# Altium integrated library National Semiconductor Switcher.IntLib: 2226 symbols (part 27 of 59)
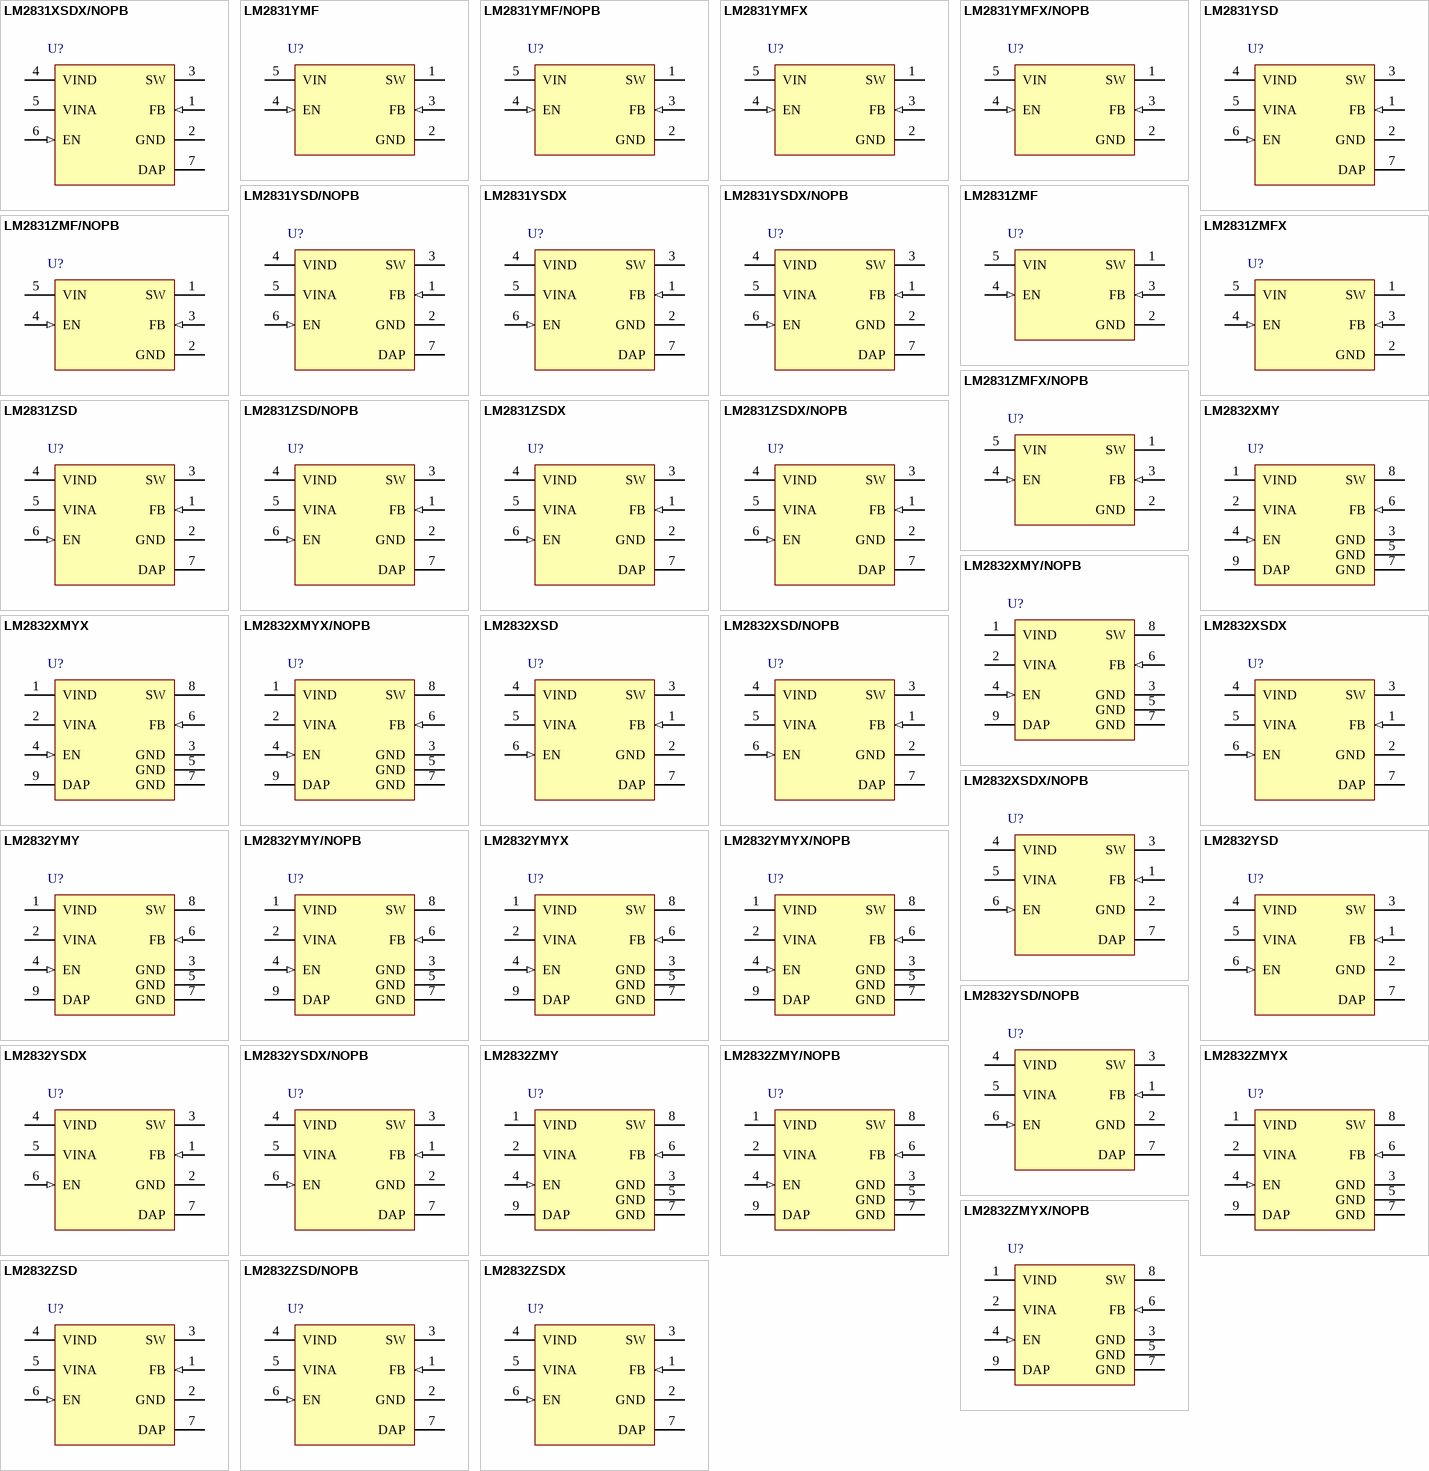
[diagram p95: symbols LM2831XSDX/NOPB to LM2832ZSDX]

## LM2831ZSD/NOPB
designator U?
High Frequency 1.5A Load - Step-Down DC-DC Regulator, 6-pin LLP, Pb-Free; PartNumber: LM2831ZSD/NOPB; Manufacturer: National Semiconductor; PackageTopMarking: ZXYTT*L195B; PowerWise: N; CompType: Switcher; High-Reliability: Y; DatasheetVersion: Aug-2006; PackageVersion: revA, Jul-2003; PackageReference: SDE06A; PackageDescription: LLP, Plastic, Dual, 3 x 3 x 0.8mm Body, 6 Lead, 0.95mm Pitch, No Pullback; RoHS: Y; PinCount: 6; ComponentLink1Description: Manufacturer URL; ComponentLink1URL: http://www.national.com/; ComponentLink2Description: LM2831 Datasheet; ComponentLink2URL: http://www.national.com/ds/LM/LM2831.pdf; ComponentLink3Description: LM2831 Web Page; ComponentLink3URL: http://www.national.com/pf/LM/LM2831.html; ComponentLink4Description: SDE06A Package Page; ComponentLink4URL: http://www.national.com/packaging/folders/sde06a.html
footprint SDE06A_full (SON, 6-Leads, Body 3x3 mm, Pitch 0.95mm, Full Paste, NSC Recommended)
footprint SDE06A_quad (SON, 6-Leads, Body 3x3 mm, Pitch 0.95mm, Quad Paste, NSC Recommended)
pins: 1 FB (in), 2 GND (power), 3 SW (power), 4 VIND (power), 5 VINA (power), 6 EN (in), 7 DAP

## LM2831ZSDX
designator U?
High Frequency 1.5A Load - Step-Down DC-DC Regulator, 6-pin LLP; PartNumber: LM2831ZSDX; Manufacturer: National Semiconductor; PackageTopMarking: ZXYTT*L195B; PowerWise: N; CompType: Switcher; High-Reliability: Y; DatasheetVersion: Aug-2006; PackageVersion: revA, Jul-2003; PackageReference: SDE06A; PackageDescription: LLP, Plastic, Dual, 3 x 3 x 0.8mm Body, 6 Lead, 0.95mm Pitch, No Pullback; RoHS: N; PinCount: 6; ComponentLink1Description: Manufacturer URL; ComponentLink1URL: http://www.national.com/; ComponentLink2Description: LM2831 Datasheet; ComponentLink2URL: http://www.national.com/ds/LM/LM2831.pdf; ComponentLink3Description: LM2831 Web Page; ComponentLink3URL: http://www.national.com/pf/LM/LM2831.html; ComponentLink4Description: SDE06A Package Page; ComponentLink4URL: http://www.national.com/packaging/folders/sde06a.html
footprint SDE06A_full (SON, 6-Leads, Body 3x3 mm, Pitch 0.95mm, Full Paste, NSC Recommended)
footprint SDE06A_quad (SON, 6-Leads, Body 3x3 mm, Pitch 0.95mm, Quad Paste, NSC Recommended)
pins: 1 FB (in), 2 GND (power), 3 SW (power), 4 VIND (power), 5 VINA (power), 6 EN (in), 7 DAP

## LM2831ZSDX/NOPB
designator U?
High Frequency 1.5A Load - Step-Down DC-DC Regulator, 6-pin LLP, Pb-Free; PartNumber: LM2831ZSDX/NOPB; Manufacturer: National Semiconductor; PackageTopMarking: ZXYTT*L195B; PowerWise: N; CompType: Switcher; High-Reliability: Y; DatasheetVersion: Aug-2006; PackageVersion: revA, Jul-2003; PackageReference: SDE06A; PackageDescription: LLP, Plastic, Dual, 3 x 3 x 0.8mm Body, 6 Lead, 0.95mm Pitch, No Pullback; RoHS: Y; PinCount: 6; ComponentLink1Description: Manufacturer URL; ComponentLink1URL: http://www.national.com/; ComponentLink2Description: LM2831 Datasheet; ComponentLink2URL: http://www.national.com/ds/LM/LM2831.pdf; ComponentLink3Description: LM2831 Web Page; ComponentLink3URL: http://www.national.com/pf/LM/LM2831.html; ComponentLink4Description: SDE06A Package Page; ComponentLink4URL: http://www.national.com/packaging/folders/sde06a.html
footprint SDE06A_full (SON, 6-Leads, Body 3x3 mm, Pitch 0.95mm, Full Paste, NSC Recommended)
footprint SDE06A_quad (SON, 6-Leads, Body 3x3 mm, Pitch 0.95mm, Quad Paste, NSC Recommended)
pins: 1 FB (in), 2 GND (power), 3 SW (power), 4 VIND (power), 5 VINA (power), 6 EN (in), 7 DAP

## LM2832XMY
designator U?
High Frequency 2.0A Load - Step-Down DC-DC Regulator, 8-pin eMSOP; PartNumber: LM2832XMY; Manufacturer: National Semiconductor; PackageTopMarking: ZXTT*SLBB; PowerWise: N; CompType: Switcher; High-Reliability: Y; DatasheetVersion: Aug-2006; PackageVersion: revA, Nov-2003; PackageReference: MUY08A; PackageDescription: Molded Mini-SO, Exposed Pad, .118 x .118 x .034in Body, 8 Lead, .0256in Pitch; RoHS: N; PinCount: 8; Code_JEDEC: MO-187-AA; ComponentLink1Description: Manufacturer URL; ComponentLink1URL: http://www.national.com/; ComponentLink2Description: LM2832 Datasheet; ComponentLink2URL: http://www.national.com/ds/LM/LM2832.pdf; ComponentLink3Description: LM2832 Web Page; ComponentLink3URL: http://www.national.com/pf/LM/LM2832.html; ComponentLink4Description: MUY08A Package Page; ComponentLink4URL: http://www.national.com/packaging/folders/muy08a.html
footprint MUY08A_N (TSOP, 8-Leads, Body 3x3mm, Pitch 0.65mm, Thermal Pad, IPC Medium Density)
footprint MUY08A_L (TSOP, 8-Leads, Body 3x3mm, Pitch 0.65mm, Thermal Pad, IPC High Density)
footprint MUY08A_M (TSOP, 8-Leads, Body 3x3mm, Pitch 0.65mm, Thermal Pad, IPC Low Density)
pins: 1 VIND (power), 2 VINA (power), 3 GND (power), 4 EN (in), 5 GND (power), 6 FB (in), 7 GND (power), 8 SW (power), 9 DAP

## LM2832XMY/NOPB
designator U?
High Frequency 2.0A Load - Step-Down DC-DC Regulator, 8-pin eMSOP, Pb-Free; PartNumber: LM2832XMY/NOPB; Manufacturer: National Semiconductor; PackageTopMarking: ZXTT*SLBB; PowerWise: N; CompType: Switcher; High-Reliability: Y; DatasheetVersion: Aug-2006; PackageVersion: revA, Nov-2003; PackageReference: MUY08A; PackageDescription: Molded Mini-SO, Exposed Pad, .118 x .118 x .034in Body, 8 Lead, .0256in Pitch; RoHS: Y; PinCount: 8; Code_JEDEC: MO-187-AA; ComponentLink1Description: Manufacturer URL; ComponentLink1URL: http://www.national.com/; ComponentLink2Description: LM2832 Datasheet; ComponentLink2URL: http://www.national.com/ds/LM/LM2832.pdf; ComponentLink3Description: LM2832 Web Page; ComponentLink3URL: http://www.national.com/pf/LM/LM2832.html; ComponentLink4Description: MUY08A Package Page; ComponentLink4URL: http://www.national.com/packaging/folders/muy08a.html
footprint MUY08A_N (TSOP, 8-Leads, Body 3x3mm, Pitch 0.65mm, Thermal Pad, IPC Medium Density)
footprint MUY08A_L (TSOP, 8-Leads, Body 3x3mm, Pitch 0.65mm, Thermal Pad, IPC High Density)
footprint MUY08A_M (TSOP, 8-Leads, Body 3x3mm, Pitch 0.65mm, Thermal Pad, IPC Low Density)
pins: 1 VIND (power), 2 VINA (power), 3 GND (power), 4 EN (in), 5 GND (power), 6 FB (in), 7 GND (power), 8 SW (power), 9 DAP

## LM2832XMYX
designator U?
High Frequency 2.0A Load - Step-Down DC-DC Regulator, 8-pin eMSOP; PartNumber: LM2832XMYX; Manufacturer: National Semiconductor; PackageTopMarking: ZXTT*SLBB; PowerWise: N; CompType: Switcher; High-Reliability: Y; DatasheetVersion: Aug-2006; PackageVersion: revA, Nov-2003; PackageReference: MUY08A; PackageDescription: Molded Mini-SO, Exposed Pad, .118 x .118 x .034in Body, 8 Lead, .0256in Pitch; RoHS: N; PinCount: 8; Code_JEDEC: MO-187-AA; ComponentLink1Description: Manufacturer URL; ComponentLink1URL: http://www.national.com/; ComponentLink2Description: LM2832 Datasheet; ComponentLink2URL: http://www.national.com/ds/LM/LM2832.pdf; ComponentLink3Description: LM2832 Web Page; ComponentLink3URL: http://www.national.com/pf/LM/LM2832.html; ComponentLink4Description: MUY08A Package Page; ComponentLink4URL: http://www.national.com/packaging/folders/muy08a.html
footprint MUY08A_N (TSOP, 8-Leads, Body 3x3mm, Pitch 0.65mm, Thermal Pad, IPC Medium Density)
footprint MUY08A_L (TSOP, 8-Leads, Body 3x3mm, Pitch 0.65mm, Thermal Pad, IPC High Density)
footprint MUY08A_M (TSOP, 8-Leads, Body 3x3mm, Pitch 0.65mm, Thermal Pad, IPC Low Density)
pins: 1 VIND (power), 2 VINA (power), 3 GND (power), 4 EN (in), 5 GND (power), 6 FB (in), 7 GND (power), 8 SW (power), 9 DAP

## LM2832XMYX/NOPB
designator U?
High Frequency 2.0A Load - Step-Down DC-DC Regulator, 8-pin eMSOP, Pb-Free; PartNumber: LM2832XMYX/NOPB; Manufacturer: National Semiconductor; PackageTopMarking: ZXTT*SLBB; PowerWise: N; CompType: Switcher; High-Reliability: Y; DatasheetVersion: Aug-2006; PackageVersion: revA, Nov-2003; PackageReference: MUY08A; PackageDescription: Molded Mini-SO, Exposed Pad, .118 x .118 x .034in Body, 8 Lead, .0256in Pitch; RoHS: Y; PinCount: 8; Code_JEDEC: MO-187-AA; ComponentLink1Description: Manufacturer URL; ComponentLink1URL: http://www.national.com/; ComponentLink2Description: LM2832 Datasheet; ComponentLink2URL: http://www.national.com/ds/LM/LM2832.pdf; ComponentLink3Description: LM2832 Web Page; ComponentLink3URL: http://www.national.com/pf/LM/LM2832.html; ComponentLink4Description: MUY08A Package Page; ComponentLink4URL: http://www.national.com/packaging/folders/muy08a.html
footprint MUY08A_N (TSOP, 8-Leads, Body 3x3mm, Pitch 0.65mm, Thermal Pad, IPC Medium Density)
footprint MUY08A_L (TSOP, 8-Leads, Body 3x3mm, Pitch 0.65mm, Thermal Pad, IPC High Density)
footprint MUY08A_M (TSOP, 8-Leads, Body 3x3mm, Pitch 0.65mm, Thermal Pad, IPC Low Density)
pins: 1 VIND (power), 2 VINA (power), 3 GND (power), 4 EN (in), 5 GND (power), 6 FB (in), 7 GND (power), 8 SW (power), 9 DAP

## LM2832XSD
designator U?
High Frequency 2.0A Load - Step-Down DC-DC Regulator, 6-pin LLP; PartNumber: LM2832XSD; Manufacturer: National Semiconductor; PackageTopMarking: ZXYTT*L196B; PowerWise: N; CompType: Switcher; High-Reliability: Y; DatasheetVersion: Aug-2006; PackageVersion: revA, Jul-2003; PackageReference: SDE06A; PackageDescription: LLP, Plastic, Dual, 3 x 3 x 0.8mm Body, 6 Lead, 0.95mm Pitch, No Pullback; RoHS: N; PinCount: 6; ComponentLink1Description: Manufacturer URL; ComponentLink1URL: http://www.national.com/; ComponentLink2Description: LM2832 Datasheet; ComponentLink2URL: http://www.national.com/ds/LM/LM2832.pdf; ComponentLink3Description: LM2832 Web Page; ComponentLink3URL: http://www.national.com/pf/LM/LM2832.html; ComponentLink4Description: SDE06A Package Page; ComponentLink4URL: http://www.national.com/packaging/folders/sde06a.html
footprint SDE06A_full (SON, 6-Leads, Body 3x3 mm, Pitch 0.95mm, Full Paste, NSC Recommended)
footprint SDE06A_quad (SON, 6-Leads, Body 3x3 mm, Pitch 0.95mm, Quad Paste, NSC Recommended)
pins: 1 FB (in), 2 GND (power), 3 SW (power), 4 VIND (power), 5 VINA (power), 6 EN (in), 7 DAP

## LM2832XSD/NOPB
designator U?
High Frequency 2.0A Load - Step-Down DC-DC Regulator, 6-pin LLP, Pb-Free; PartNumber: LM2832XSD/NOPB; Manufacturer: National Semiconductor; PackageTopMarking: ZXYTT*L196B; PowerWise: N; CompType: Switcher; High-Reliability: Y; DatasheetVersion: Aug-2006; PackageVersion: revA, Jul-2003; PackageReference: SDE06A; PackageDescription: LLP, Plastic, Dual, 3 x 3 x 0.8mm Body, 6 Lead, 0.95mm Pitch, No Pullback; RoHS: Y; PinCount: 6; ComponentLink1Description: Manufacturer URL; ComponentLink1URL: http://www.national.com/; ComponentLink2Description: LM2832 Datasheet; ComponentLink2URL: http://www.national.com/ds/LM/LM2832.pdf; ComponentLink3Description: LM2832 Web Page; ComponentLink3URL: http://www.national.com/pf/LM/LM2832.html; ComponentLink4Description: SDE06A Package Page; ComponentLink4URL: http://www.national.com/packaging/folders/sde06a.html
footprint SDE06A_full (SON, 6-Leads, Body 3x3 mm, Pitch 0.95mm, Full Paste, NSC Recommended)
footprint SDE06A_quad (SON, 6-Leads, Body 3x3 mm, Pitch 0.95mm, Quad Paste, NSC Recommended)
pins: 1 FB (in), 2 GND (power), 3 SW (power), 4 VIND (power), 5 VINA (power), 6 EN (in), 7 DAP

## LM2832XSDX
designator U?
High Frequency 2.0A Load - Step-Down DC-DC Regulator, 6-pin LLP; PartNumber: LM2832XSDX; Manufacturer: National Semiconductor; PackageTopMarking: ZXYTT*L196B; PowerWise: N; CompType: Switcher; High-Reliability: Y; DatasheetVersion: Aug-2006; PackageVersion: revA, Jul-2003; PackageReference: SDE06A; PackageDescription: LLP, Plastic, Dual, 3 x 3 x 0.8mm Body, 6 Lead, 0.95mm Pitch, No Pullback; RoHS: N; PinCount: 6; ComponentLink1Description: Manufacturer URL; ComponentLink1URL: http://www.national.com/; ComponentLink2Description: LM2832 Datasheet; ComponentLink2URL: http://www.national.com/ds/LM/LM2832.pdf; ComponentLink3Description: LM2832 Web Page; ComponentLink3URL: http://www.national.com/pf/LM/LM2832.html; ComponentLink4Description: SDE06A Package Page; ComponentLink4URL: http://www.national.com/packaging/folders/sde06a.html
footprint SDE06A_full (SON, 6-Leads, Body 3x3 mm, Pitch 0.95mm, Full Paste, NSC Recommended)
footprint SDE06A_quad (SON, 6-Leads, Body 3x3 mm, Pitch 0.95mm, Quad Paste, NSC Recommended)
pins: 1 FB (in), 2 GND (power), 3 SW (power), 4 VIND (power), 5 VINA (power), 6 EN (in), 7 DAP

## LM2832XSDX/NOPB
designator U?
High Frequency 2.0A Load - Step-Down DC-DC Regulator, 6-pin LLP, Pb-Free; PartNumber: LM2832XSDX/NOPB; Manufacturer: National Semiconductor; PackageTopMarking: ZXYTT*L196B; PowerWise: N; CompType: Switcher; High-Reliability: Y; DatasheetVersion: Aug-2006; PackageVersion: revA, Jul-2003; PackageReference: SDE06A; PackageDescription: LLP, Plastic, Dual, 3 x 3 x 0.8mm Body, 6 Lead, 0.95mm Pitch, No Pullback; RoHS: Y; PinCount: 6; ComponentLink1Description: Manufacturer URL; ComponentLink1URL: http://www.national.com/; ComponentLink2Description: LM2832 Datasheet; ComponentLink2URL: http://www.national.com/ds/LM/LM2832.pdf; ComponentLink3Description: LM2832 Web Page; ComponentLink3URL: http://www.national.com/pf/LM/LM2832.html; ComponentLink4Description: SDE06A Package Page; ComponentLink4URL: http://www.national.com/packaging/folders/sde06a.html
footprint SDE06A_full (SON, 6-Leads, Body 3x3 mm, Pitch 0.95mm, Full Paste, NSC Recommended)
footprint SDE06A_quad (SON, 6-Leads, Body 3x3 mm, Pitch 0.95mm, Quad Paste, NSC Recommended)
pins: 1 FB (in), 2 GND (power), 3 SW (power), 4 VIND (power), 5 VINA (power), 6 EN (in), 7 DAP

## LM2832YMY
designator U?
High Frequency 2.0A Load - Step-Down DC-DC Regulator, 8-pin eMSOP; PartNumber: LM2832YMY; Manufacturer: National Semiconductor; PackageTopMarking: ZXTT*SLCB; PowerWise: N; CompType: Switcher; High-Reliability: Y; DatasheetVersion: Aug-2006; PackageVersion: revA, Nov-2003; PackageReference: MUY08A; PackageDescription: Molded Mini-SO, Exposed Pad, .118 x .118 x .034in Body, 8 Lead, .0256in Pitch; RoHS: N; PinCount: 8; Code_JEDEC: MO-187-AA; ComponentLink1Description: Manufacturer URL; ComponentLink1URL: http://www.national.com/; ComponentLink2Description: LM2832 Datasheet; ComponentLink2URL: http://www.national.com/ds/LM/LM2832.pdf; ComponentLink3Description: LM2832 Web Page; ComponentLink3URL: http://www.national.com/pf/LM/LM2832.html; ComponentLink4Description: MUY08A Package Page; ComponentLink4URL: http://www.national.com/packaging/folders/muy08a.html
footprint MUY08A_N (TSOP, 8-Leads, Body 3x3mm, Pitch 0.65mm, Thermal Pad, IPC Medium Density)
footprint MUY08A_L (TSOP, 8-Leads, Body 3x3mm, Pitch 0.65mm, Thermal Pad, IPC High Density)
footprint MUY08A_M (TSOP, 8-Leads, Body 3x3mm, Pitch 0.65mm, Thermal Pad, IPC Low Density)
pins: 1 VIND (power), 2 VINA (power), 3 GND (power), 4 EN (in), 5 GND (power), 6 FB (in), 7 GND (power), 8 SW (power), 9 DAP

## LM2832YMY/NOPB
designator U?
High Frequency 2.0A Load - Step-Down DC-DC Regulator, 8-pin eMSOP, Pb-Free; PartNumber: LM2832YMY/NOPB; Manufacturer: National Semiconductor; PackageTopMarking: ZXTT*SLCB; PowerWise: N; CompType: Switcher; High-Reliability: Y; DatasheetVersion: Aug-2006; PackageVersion: revA, Nov-2003; PackageReference: MUY08A; PackageDescription: Molded Mini-SO, Exposed Pad, .118 x .118 x .034in Body, 8 Lead, .0256in Pitch; RoHS: Y; PinCount: 8; Code_JEDEC: MO-187-AA; ComponentLink1Description: Manufacturer URL; ComponentLink1URL: http://www.national.com/; ComponentLink2Description: LM2832 Datasheet; ComponentLink2URL: http://www.national.com/ds/LM/LM2832.pdf; ComponentLink3Description: LM2832 Web Page; ComponentLink3URL: http://www.national.com/pf/LM/LM2832.html; ComponentLink4Description: MUY08A Package Page; ComponentLink4URL: http://www.national.com/packaging/folders/muy08a.html
footprint MUY08A_N (TSOP, 8-Leads, Body 3x3mm, Pitch 0.65mm, Thermal Pad, IPC Medium Density)
footprint MUY08A_L (TSOP, 8-Leads, Body 3x3mm, Pitch 0.65mm, Thermal Pad, IPC High Density)
footprint MUY08A_M (TSOP, 8-Leads, Body 3x3mm, Pitch 0.65mm, Thermal Pad, IPC Low Density)
pins: 1 VIND (power), 2 VINA (power), 3 GND (power), 4 EN (in), 5 GND (power), 6 FB (in), 7 GND (power), 8 SW (power), 9 DAP

## LM2832YMYX
designator U?
High Frequency 2.0A Load - Step-Down DC-DC Regulator, 8-pin eMSOP; PartNumber: LM2832YMYX; Manufacturer: National Semiconductor; PackageTopMarking: ZXTT*SLCB; PowerWise: N; CompType: Switcher; High-Reliability: Y; DatasheetVersion: Aug-2006; PackageVersion: revA, Nov-2003; PackageReference: MUY08A; PackageDescription: Molded Mini-SO, Exposed Pad, .118 x .118 x .034in Body, 8 Lead, .0256in Pitch; RoHS: N; PinCount: 8; Code_JEDEC: MO-187-AA; ComponentLink1Description: Manufacturer URL; ComponentLink1URL: http://www.national.com/; ComponentLink2Description: LM2832 Datasheet; ComponentLink2URL: http://www.national.com/ds/LM/LM2832.pdf; ComponentLink3Description: LM2832 Web Page; ComponentLink3URL: http://www.national.com/pf/LM/LM2832.html; ComponentLink4Description: MUY08A Package Page; ComponentLink4URL: http://www.national.com/packaging/folders/muy08a.html
footprint MUY08A_N (TSOP, 8-Leads, Body 3x3mm, Pitch 0.65mm, Thermal Pad, IPC Medium Density)
footprint MUY08A_L (TSOP, 8-Leads, Body 3x3mm, Pitch 0.65mm, Thermal Pad, IPC High Density)
footprint MUY08A_M (TSOP, 8-Leads, Body 3x3mm, Pitch 0.65mm, Thermal Pad, IPC Low Density)
pins: 1 VIND (power), 2 VINA (power), 3 GND (power), 4 EN (in), 5 GND (power), 6 FB (in), 7 GND (power), 8 SW (power), 9 DAP

## LM2832YMYX/NOPB
designator U?
High Frequency 2.0A Load - Step-Down DC-DC Regulator, 8-pin eMSOP, Pb-Free; PartNumber: LM2832YMYX/NOPB; Manufacturer: National Semiconductor; PackageTopMarking: ZXTT*SLCB; PowerWise: N; CompType: Switcher; High-Reliability: Y; DatasheetVersion: Aug-2006; PackageVersion: revA, Nov-2003; PackageReference: MUY08A; PackageDescription: Molded Mini-SO, Exposed Pad, .118 x .118 x .034in Body, 8 Lead, .0256in Pitch; RoHS: Y; PinCount: 8; Code_JEDEC: MO-187-AA; ComponentLink1Description: Manufacturer URL; ComponentLink1URL: http://www.national.com/; ComponentLink2Description: LM2832 Datasheet; ComponentLink2URL: http://www.national.com/ds/LM/LM2832.pdf; ComponentLink3Description: LM2832 Web Page; ComponentLink3URL: http://www.national.com/pf/LM/LM2832.html; ComponentLink4Description: MUY08A Package Page; ComponentLink4URL: http://www.national.com/packaging/folders/muy08a.html
footprint MUY08A_N (TSOP, 8-Leads, Body 3x3mm, Pitch 0.65mm, Thermal Pad, IPC Medium Density)
footprint MUY08A_L (TSOP, 8-Leads, Body 3x3mm, Pitch 0.65mm, Thermal Pad, IPC High Density)
footprint MUY08A_M (TSOP, 8-Leads, Body 3x3mm, Pitch 0.65mm, Thermal Pad, IPC Low Density)
pins: 1 VIND (power), 2 VINA (power), 3 GND (power), 4 EN (in), 5 GND (power), 6 FB (in), 7 GND (power), 8 SW (power), 9 DAP

## LM2832YSD
designator U?
High Frequency 2.0A Load - Step-Down DC-DC Regulator, 6-pin LLP; PartNumber: LM2832YSD; Manufacturer: National Semiconductor; PackageTopMarking: ZXYTT*L197B; PowerWise: N; CompType: Switcher; High-Reliability: Y; DatasheetVersion: Aug-2006; PackageVersion: revA, Jul-2003; PackageReference: SDE06A; PackageDescription: LLP, Plastic, Dual, 3 x 3 x 0.8mm Body, 6 Lead, 0.95mm Pitch, No Pullback; RoHS: N; PinCount: 6; ComponentLink1Description: Manufacturer URL; ComponentLink1URL: http://www.national.com/; ComponentLink2Description: LM2832 Datasheet; ComponentLink2URL: http://www.national.com/ds/LM/LM2832.pdf; ComponentLink3Description: LM2832 Web Page; ComponentLink3URL: http://www.national.com/pf/LM/LM2832.html; ComponentLink4Description: SDE06A Package Page; ComponentLink4URL: http://www.national.com/packaging/folders/sde06a.html
footprint SDE06A_full (SON, 6-Leads, Body 3x3 mm, Pitch 0.95mm, Full Paste, NSC Recommended)
footprint SDE06A_quad (SON, 6-Leads, Body 3x3 mm, Pitch 0.95mm, Quad Paste, NSC Recommended)
pins: 1 FB (in), 2 GND (power), 3 SW (power), 4 VIND (power), 5 VINA (power), 6 EN (in), 7 DAP

## LM2832YSD/NOPB
designator U?
High Frequency 2.0A Load - Step-Down DC-DC Regulator, 6-pin LLP, Pb-Free; PartNumber: LM2832YSD/NOPB; Manufacturer: National Semiconductor; PackageTopMarking: ZXYTT*L197B; PowerWise: N; CompType: Switcher; High-Reliability: Y; DatasheetVersion: Aug-2006; PackageVersion: revA, Jul-2003; PackageReference: SDE06A; PackageDescription: LLP, Plastic, Dual, 3 x 3 x 0.8mm Body, 6 Lead, 0.95mm Pitch, No Pullback; RoHS: Y; PinCount: 6; ComponentLink1Description: Manufacturer URL; ComponentLink1URL: http://www.national.com/; ComponentLink2Description: LM2832 Datasheet; ComponentLink2URL: http://www.national.com/ds/LM/LM2832.pdf; ComponentLink3Description: LM2832 Web Page; ComponentLink3URL: http://www.national.com/pf/LM/LM2832.html; ComponentLink4Description: SDE06A Package Page; ComponentLink4URL: http://www.national.com/packaging/folders/sde06a.html
footprint SDE06A_full (SON, 6-Leads, Body 3x3 mm, Pitch 0.95mm, Full Paste, NSC Recommended)
footprint SDE06A_quad (SON, 6-Leads, Body 3x3 mm, Pitch 0.95mm, Quad Paste, NSC Recommended)
pins: 1 FB (in), 2 GND (power), 3 SW (power), 4 VIND (power), 5 VINA (power), 6 EN (in), 7 DAP

## LM2832YSDX
designator U?
High Frequency 2.0A Load - Step-Down DC-DC Regulator, 6-pin LLP; PartNumber: LM2832YSDX; Manufacturer: National Semiconductor; PackageTopMarking: ZXYTT*L197B; PowerWise: N; CompType: Switcher; High-Reliability: Y; DatasheetVersion: Aug-2006; PackageVersion: revA, Jul-2003; PackageReference: SDE06A; PackageDescription: LLP, Plastic, Dual, 3 x 3 x 0.8mm Body, 6 Lead, 0.95mm Pitch, No Pullback; RoHS: N; PinCount: 6; ComponentLink1Description: Manufacturer URL; ComponentLink1URL: http://www.national.com/; ComponentLink2Description: LM2832 Datasheet; ComponentLink2URL: http://www.national.com/ds/LM/LM2832.pdf; ComponentLink3Description: LM2832 Web Page; ComponentLink3URL: http://www.national.com/pf/LM/LM2832.html; ComponentLink4Description: SDE06A Package Page; ComponentLink4URL: http://www.national.com/packaging/folders/sde06a.html
footprint SDE06A_full (SON, 6-Leads, Body 3x3 mm, Pitch 0.95mm, Full Paste, NSC Recommended)
footprint SDE06A_quad (SON, 6-Leads, Body 3x3 mm, Pitch 0.95mm, Quad Paste, NSC Recommended)
pins: 1 FB (in), 2 GND (power), 3 SW (power), 4 VIND (power), 5 VINA (power), 6 EN (in), 7 DAP

## LM2832YSDX/NOPB
designator U?
High Frequency 2.0A Load - Step-Down DC-DC Regulator, 6-pin LLP, Pb-Free; PartNumber: LM2832YSDX/NOPB; Manufacturer: National Semiconductor; PackageTopMarking: ZXYTT*L197B; PowerWise: N; CompType: Switcher; High-Reliability: Y; DatasheetVersion: Aug-2006; PackageVersion: revA, Jul-2003; PackageReference: SDE06A; PackageDescription: LLP, Plastic, Dual, 3 x 3 x 0.8mm Body, 6 Lead, 0.95mm Pitch, No Pullback; RoHS: Y; PinCount: 6; ComponentLink1Description: Manufacturer URL; ComponentLink1URL: http://www.national.com/; ComponentLink2Description: LM2832 Datasheet; ComponentLink2URL: http://www.national.com/ds/LM/LM2832.pdf; ComponentLink3Description: LM2832 Web Page; ComponentLink3URL: http://www.national.com/pf/LM/LM2832.html; ComponentLink4Description: SDE06A Package Page; ComponentLink4URL: http://www.national.com/packaging/folders/sde06a.html
footprint SDE06A_full (SON, 6-Leads, Body 3x3 mm, Pitch 0.95mm, Full Paste, NSC Recommended)
footprint SDE06A_quad (SON, 6-Leads, Body 3x3 mm, Pitch 0.95mm, Quad Paste, NSC Recommended)
pins: 1 FB (in), 2 GND (power), 3 SW (power), 4 VIND (power), 5 VINA (power), 6 EN (in), 7 DAP

## LM2832ZMY
designator U?
High Frequency 2.0A Load - Step-Down DC-DC Regulator, 8-pin eMSOP; PartNumber: LM2832ZMY; Manufacturer: National Semiconductor; PackageTopMarking: ZXTT*SLDB; PowerWise: N; CompType: Switcher; High-Reliability: Y; DatasheetVersion: Aug-2006; PackageVersion: revA, Nov-2003; PackageReference: MUY08A; PackageDescription: Molded Mini-SO, Exposed Pad, .118 x .118 x .034in Body, 8 Lead, .0256in Pitch; RoHS: N; PinCount: 8; Code_JEDEC: MO-187-AA; ComponentLink1Description: Manufacturer URL; ComponentLink1URL: http://www.national.com/; ComponentLink2Description: LM2832 Datasheet; ComponentLink2URL: http://www.national.com/ds/LM/LM2832.pdf; ComponentLink3Description: LM2832 Web Page; ComponentLink3URL: http://www.national.com/pf/LM/LM2832.html; ComponentLink4Description: MUY08A Package Page; ComponentLink4URL: http://www.national.com/packaging/folders/muy08a.html
footprint MUY08A_N (TSOP, 8-Leads, Body 3x3mm, Pitch 0.65mm, Thermal Pad, IPC Medium Density)
footprint MUY08A_L (TSOP, 8-Leads, Body 3x3mm, Pitch 0.65mm, Thermal Pad, IPC High Density)
footprint MUY08A_M (TSOP, 8-Leads, Body 3x3mm, Pitch 0.65mm, Thermal Pad, IPC Low Density)
pins: 1 VIND (power), 2 VINA (power), 3 GND (power), 4 EN (in), 5 GND (power), 6 FB (in), 7 GND (power), 8 SW (power), 9 DAP

## LM2832ZMY/NOPB
designator U?
High Frequency 2.0A Load - Step-Down DC-DC Regulator, 8-pin eMSOP, Pb-Free; PartNumber: LM2832ZMY/NOPB; Manufacturer: National Semiconductor; PackageTopMarking: ZXTT*SLDB; PowerWise: N; CompType: Switcher; High-Reliability: Y; DatasheetVersion: Aug-2006; PackageVersion: revA, Nov-2003; PackageReference: MUY08A; PackageDescription: Molded Mini-SO, Exposed Pad, .118 x .118 x .034in Body, 8 Lead, .0256in Pitch; RoHS: Y; PinCount: 8; Code_JEDEC: MO-187-AA; ComponentLink1Description: Manufacturer URL; ComponentLink1URL: http://www.national.com/; ComponentLink2Description: LM2832 Datasheet; ComponentLink2URL: http://www.national.com/ds/LM/LM2832.pdf; ComponentLink3Description: LM2832 Web Page; ComponentLink3URL: http://www.national.com/pf/LM/LM2832.html; ComponentLink4Description: MUY08A Package Page; ComponentLink4URL: http://www.national.com/packaging/folders/muy08a.html
footprint MUY08A_N (TSOP, 8-Leads, Body 3x3mm, Pitch 0.65mm, Thermal Pad, IPC Medium Density)
footprint MUY08A_L (TSOP, 8-Leads, Body 3x3mm, Pitch 0.65mm, Thermal Pad, IPC High Density)
footprint MUY08A_M (TSOP, 8-Leads, Body 3x3mm, Pitch 0.65mm, Thermal Pad, IPC Low Density)
pins: 1 VIND (power), 2 VINA (power), 3 GND (power), 4 EN (in), 5 GND (power), 6 FB (in), 7 GND (power), 8 SW (power), 9 DAP

## LM2832ZMYX
designator U?
High Frequency 2.0A Load - Step-Down DC-DC Regulator, 8-pin eMSOP; PartNumber: LM2832ZMYX; Manufacturer: National Semiconductor; PackageTopMarking: ZXTT*SLDB; PowerWise: N; CompType: Switcher; High-Reliability: Y; DatasheetVersion: Aug-2006; PackageVersion: revA, Nov-2003; PackageReference: MUY08A; PackageDescription: Molded Mini-SO, Exposed Pad, .118 x .118 x .034in Body, 8 Lead, .0256in Pitch; RoHS: N; PinCount: 8; Code_JEDEC: MO-187-AA; ComponentLink1Description: Manufacturer URL; ComponentLink1URL: http://www.national.com/; ComponentLink2Description: LM2832 Datasheet; ComponentLink2URL: http://www.national.com/ds/LM/LM2832.pdf; ComponentLink3Description: LM2832 Web Page; ComponentLink3URL: http://www.national.com/pf/LM/LM2832.html; ComponentLink4Description: MUY08A Package Page; ComponentLink4URL: http://www.national.com/packaging/folders/muy08a.html
footprint MUY08A_N (TSOP, 8-Leads, Body 3x3mm, Pitch 0.65mm, Thermal Pad, IPC Medium Density)
footprint MUY08A_L (TSOP, 8-Leads, Body 3x3mm, Pitch 0.65mm, Thermal Pad, IPC High Density)
footprint MUY08A_M (TSOP, 8-Leads, Body 3x3mm, Pitch 0.65mm, Thermal Pad, IPC Low Density)
pins: 1 VIND (power), 2 VINA (power), 3 GND (power), 4 EN (in), 5 GND (power), 6 FB (in), 7 GND (power), 8 SW (power), 9 DAP

## LM2832ZMYX/NOPB
designator U?
High Frequency 2.0A Load - Step-Down DC-DC Regulator, 8-pin eMSOP, Pb-Free; PartNumber: LM2832ZMYX/NOPB; Manufacturer: National Semiconductor; PackageTopMarking: ZXTT*SLDB; PowerWise: N; CompType: Switcher; High-Reliability: Y; DatasheetVersion: Aug-2006; PackageVersion: revA, Nov-2003; PackageReference: MUY08A; PackageDescription: Molded Mini-SO, Exposed Pad, .118 x .118 x .034in Body, 8 Lead, .0256in Pitch; RoHS: Y; PinCount: 8; Code_JEDEC: MO-187-AA; ComponentLink1Description: Manufacturer URL; ComponentLink1URL: http://www.national.com/; ComponentLink2Description: LM2832 Datasheet; ComponentLink2URL: http://www.national.com/ds/LM/LM2832.pdf; ComponentLink3Description: LM2832 Web Page; ComponentLink3URL: http://www.national.com/pf/LM/LM2832.html; ComponentLink4Description: MUY08A Package Page; ComponentLink4URL: http://www.national.com/packaging/folders/muy08a.html
footprint MUY08A_N (TSOP, 8-Leads, Body 3x3mm, Pitch 0.65mm, Thermal Pad, IPC Medium Density)
footprint MUY08A_L (TSOP, 8-Leads, Body 3x3mm, Pitch 0.65mm, Thermal Pad, IPC High Density)
footprint MUY08A_M (TSOP, 8-Leads, Body 3x3mm, Pitch 0.65mm, Thermal Pad, IPC Low Density)
pins: 1 VIND (power), 2 VINA (power), 3 GND (power), 4 EN (in), 5 GND (power), 6 FB (in), 7 GND (power), 8 SW (power), 9 DAP

## LM2832ZSD
designator U?
High Frequency 2.0A Load - Step-Down DC-DC Regulator, 6-pin LLP; PartNumber: LM2832ZSD; Manufacturer: National Semiconductor; PackageTopMarking: ZXYTT*L198B; PowerWise: N; CompType: Switcher; High-Reliability: Y; DatasheetVersion: Aug-2006; PackageVersion: revA, Jul-2003; PackageReference: SDE06A; PackageDescription: LLP, Plastic, Dual, 3 x 3 x 0.8mm Body, 6 Lead, 0.95mm Pitch, No Pullback; RoHS: N; PinCount: 6; ComponentLink1Description: Manufacturer URL; ComponentLink1URL: http://www.national.com/; ComponentLink2Description: LM2832 Datasheet; ComponentLink2URL: http://www.national.com/ds/LM/LM2832.pdf; ComponentLink3Description: LM2832 Web Page; ComponentLink3URL: http://www.national.com/pf/LM/LM2832.html; ComponentLink4Description: SDE06A Package Page; ComponentLink4URL: http://www.national.com/packaging/folders/sde06a.html
footprint SDE06A_full (SON, 6-Leads, Body 3x3 mm, Pitch 0.95mm, Full Paste, NSC Recommended)
footprint SDE06A_quad (SON, 6-Leads, Body 3x3 mm, Pitch 0.95mm, Quad Paste, NSC Recommended)
pins: 1 FB (in), 2 GND (power), 3 SW (power), 4 VIND (power), 5 VINA (power), 6 EN (in), 7 DAP

## LM2832ZSD/NOPB
designator U?
High Frequency 2.0A Load - Step-Down DC-DC Regulator, 6-pin LLP, Pb-Free; PartNumber: LM2832ZSD/NOPB; Manufacturer: National Semiconductor; PackageTopMarking: ZXYTT*L198B; PowerWise: N; CompType: Switcher; High-Reliability: Y; DatasheetVersion: Aug-2006; PackageVersion: revA, Jul-2003; PackageReference: SDE06A; PackageDescription: LLP, Plastic, Dual, 3 x 3 x 0.8mm Body, 6 Lead, 0.95mm Pitch, No Pullback; RoHS: Y; PinCount: 6; ComponentLink1Description: Manufacturer URL; ComponentLink1URL: http://www.national.com/; ComponentLink2Description: LM2832 Datasheet; ComponentLink2URL: http://www.national.com/ds/LM/LM2832.pdf; ComponentLink3Description: LM2832 Web Page; ComponentLink3URL: http://www.national.com/pf/LM/LM2832.html; ComponentLink4Description: SDE06A Package Page; ComponentLink4URL: http://www.national.com/packaging/folders/sde06a.html
footprint SDE06A_full (SON, 6-Leads, Body 3x3 mm, Pitch 0.95mm, Full Paste, NSC Recommended)
footprint SDE06A_quad (SON, 6-Leads, Body 3x3 mm, Pitch 0.95mm, Quad Paste, NSC Recommended)
pins: 1 FB (in), 2 GND (power), 3 SW (power), 4 VIND (power), 5 VINA (power), 6 EN (in), 7 DAP

## LM2832ZSDX
designator U?
High Frequency 2.0A Load - Step-Down DC-DC Regulator, 6-pin LLP; PartNumber: LM2832ZSDX; Manufacturer: National Semiconductor; PackageTopMarking: ZXYTT*L198B; PowerWise: N; CompType: Switcher; High-Reliability: Y; DatasheetVersion: Aug-2006; PackageVersion: revA, Jul-2003; PackageReference: SDE06A; PackageDescription: LLP, Plastic, Dual, 3 x 3 x 0.8mm Body, 6 Lead, 0.95mm Pitch, No Pullback; RoHS: N; PinCount: 6; ComponentLink1Description: Manufacturer URL; ComponentLink1URL: http://www.national.com/; ComponentLink2Description: LM2832 Datasheet; ComponentLink2URL: http://www.national.com/ds/LM/LM2832.pdf; ComponentLink3Description: LM2832 Web Page; ComponentLink3URL: http://www.national.com/pf/LM/LM2832.html; ComponentLink4Description: SDE06A Package Page; ComponentLink4URL: http://www.national.com/packaging/folders/sde06a.html
footprint SDE06A_full (SON, 6-Leads, Body 3x3 mm, Pitch 0.95mm, Full Paste, NSC Recommended)
footprint SDE06A_quad (SON, 6-Leads, Body 3x3 mm, Pitch 0.95mm, Quad Paste, NSC Recommended)
pins: 1 FB (in), 2 GND (power), 3 SW (power), 4 VIND (power), 5 VINA (power), 6 EN (in), 7 DAP

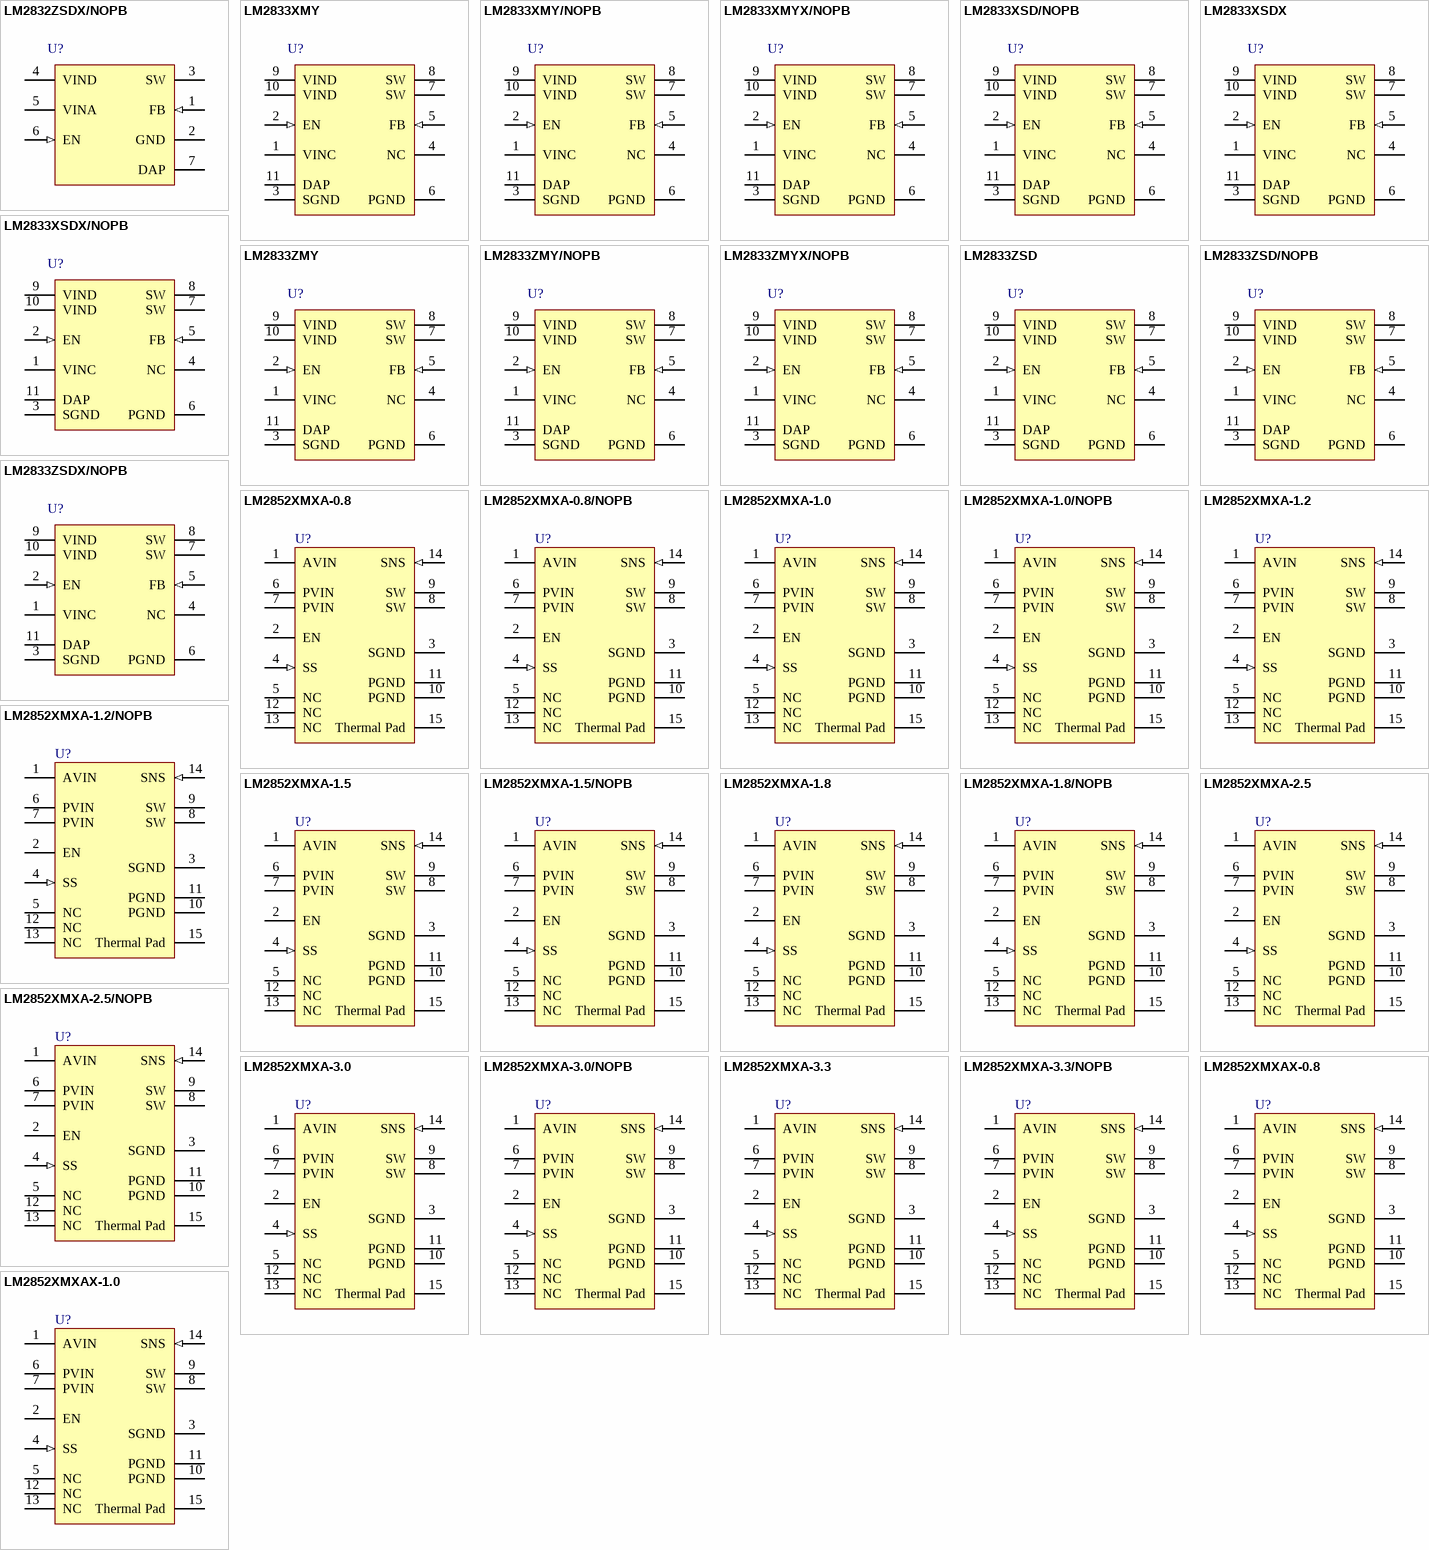
[diagram p29: symbols LM2832ZSDX/NOPB to LM2852XMXAX-1.0]

## LM2832ZSDX/NOPB
designator U?
High Frequency 2.0A Load - Step-Down DC-DC Regulator, 6-pin LLP, Pb-Free; PartNumber: LM2832ZSDX/NOPB; Manufacturer: National Semiconductor; PackageTopMarking: ZXYTT*L198B; PowerWise: N; CompType: Switcher; High-Reliability: Y; DatasheetVersion: Aug-2006; PackageVersion: revA, Jul-2003; PackageReference: SDE06A; PackageDescription: LLP, Plastic, Dual, 3 x 3 x 0.8mm Body, 6 Lead, 0.95mm Pitch, No Pullback; RoHS: Y; PinCount: 6; ComponentLink1Description: Manufacturer URL; ComponentLink1URL: http://www.national.com/; ComponentLink2Description: LM2832 Datasheet; ComponentLink2URL: http://www.national.com/ds/LM/LM2832.pdf; ComponentLink3Description: LM2832 Web Page; ComponentLink3URL: http://www.national.com/pf/LM/LM2832.html; ComponentLink4Description: SDE06A Package Page; ComponentLink4URL: http://www.national.com/packaging/folders/sde06a.html
footprint SDE06A_full (SON, 6-Leads, Body 3x3 mm, Pitch 0.95mm, Full Paste, NSC Recommended)
footprint SDE06A_quad (SON, 6-Leads, Body 3x3 mm, Pitch 0.95mm, Quad Paste, NSC Recommended)
pins: 1 FB (in), 2 GND (power), 3 SW (power), 4 VIND (power), 5 VINA (power), 6 EN (in), 7 DAP

## LM2833XMY
designator U?
1.5MHz/3MHz 3.0A Step-Down DC-DC Switching Regulator, 10-pin eMSOP; PartNumber: LM2833XMY; Manufacturer: National Semiconductor; PackageTopMarking: ZXTT*SPYB; PowerWise: N; CompType: Switcher; High-Reliability: Y; DatasheetVersion: Jan-2009; PackageVersion: revA, May-2006; PackageReference: MUC10A; PackageDescription: Molded Mini-SO, Exposed Pad .118 x .118 x .034in Body, 10 Lead, .0197in Pitch; RoHS: Y; PinCount: 10; Code_JEDEC: MO-187-BAT; ComponentLink1Description: Manufacturer URL; ComponentLink1URL: http://www.national.com/; ComponentLink2Description: LM2833 Datasheet; ComponentLink2URL: http://www.national.com/ds/LM/LM2833.pdf; ComponentLink3Description: LM2833 Web Page; ComponentLink3URL: http://www.national.com/pf/LM/LM2833.html; ComponentLink4Description: MUC10A Package Page; ComponentLink4URL: http://www.national.com/packaging/folders/muc10a.html
footprint MUC10A_N (TSSOP, 10-Leads, Body 3x3mm, Pitch 0.5mm, Exposed Pad, IPC Medium Density)
footprint MUC10A_L (TSSOP, 10-Leads, Body 3x3mm, Pitch 0.5mm, Exposed Pad, IPC High Density)
footprint MUC10A_M (TSSOP, 10-Leads, Body 3x3mm, Pitch 0.5mm, Exposed Pad, IPC Low Density)
pins: 1 VINC (power), 2 EN (in), 3 SGND (power), 4 NC, 5 FB (in), 6 PGND (power), 7 SW (power), 8 SW (power), 9 VIND (power), 10 VIND (power), 11 DAP (power)

## LM2833XMY/NOPB
designator U?
1.5MHz/3MHz 3.0A Step-Down DC-DC Switching Regulator, 10-pin eMSOP, Pb-Free; PartNumber: LM2833XMY/NOPB; Manufacturer: National Semiconductor; PackageTopMarking: ZXTT*SPYB; PowerWise: N; CompType: Switcher; High-Reliability: Y; DatasheetVersion: Jan-2009; PackageVersion: revA, May-2006; PackageReference: MUC10A; PackageDescription: Molded Mini-SO, Exposed Pad .118 x .118 x .034in Body, 10 Lead, .0197in Pitch; RoHS: Y; PinCount: 10; Code_JEDEC: MO-187-BAT; ComponentLink1Description: Manufacturer URL; ComponentLink1URL: http://www.national.com/; ComponentLink2Description: LM2833 Datasheet; ComponentLink2URL: http://www.national.com/ds/LM/LM2833.pdf; ComponentLink3Description: LM2833 Web Page; ComponentLink3URL: http://www.national.com/pf/LM/LM2833.html; ComponentLink4Description: MUC10A Package Page; ComponentLink4URL: http://www.national.com/packaging/folders/muc10a.html
footprint MUC10A_N (TSSOP, 10-Leads, Body 3x3mm, Pitch 0.5mm, Exposed Pad, IPC Medium Density)
footprint MUC10A_L (TSSOP, 10-Leads, Body 3x3mm, Pitch 0.5mm, Exposed Pad, IPC High Density)
footprint MUC10A_M (TSSOP, 10-Leads, Body 3x3mm, Pitch 0.5mm, Exposed Pad, IPC Low Density)
pins: 1 VINC (power), 2 EN (in), 3 SGND (power), 4 NC, 5 FB (in), 6 PGND (power), 7 SW (power), 8 SW (power), 9 VIND (power), 10 VIND (power), 11 DAP (power)

## LM2833XMYX/NOPB
designator U?
1.5MHz/3MHz 3.0A Step-Down DC-DC Switching Regulator, 10-pin eMSOP, Pb-Free; PartNumber: LM2833XMYX/NOPB; Manufacturer: National Semiconductor; PackageTopMarking: ZXTT*SPYB; PowerWise: N; CompType: Switcher; High-Reliability: Y; DatasheetVersion: Jan-2009; PackageVersion: revA, May-2006; PackageReference: MUC10A; PackageDescription: Molded Mini-SO, Exposed Pad .118 x .118 x .034in Body, 10 Lead, .0197in Pitch; RoHS: Y; PinCount: 10; Code_JEDEC: MO-187-BAT; ComponentLink1Description: Manufacturer URL; ComponentLink1URL: http://www.national.com/; ComponentLink2Description: LM2833 Datasheet; ComponentLink2URL: http://www.national.com/ds/LM/LM2833.pdf; ComponentLink3Description: LM2833 Web Page; ComponentLink3URL: http://www.national.com/pf/LM/LM2833.html; ComponentLink4Description: MUC10A Package Page; ComponentLink4URL: http://www.national.com/packaging/folders/muc10a.html
footprint MUC10A_N (TSSOP, 10-Leads, Body 3x3mm, Pitch 0.5mm, Exposed Pad, IPC Medium Density)
footprint MUC10A_L (TSSOP, 10-Leads, Body 3x3mm, Pitch 0.5mm, Exposed Pad, IPC High Density)
footprint MUC10A_M (TSSOP, 10-Leads, Body 3x3mm, Pitch 0.5mm, Exposed Pad, IPC Low Density)
pins: 1 VINC (power), 2 EN (in), 3 SGND (power), 4 NC, 5 FB (in), 6 PGND (power), 7 SW (power), 8 SW (power), 9 VIND (power), 10 VIND (power), 11 DAP (power)

## LM2833XSD/NOPB
designator U?
1.5MHz/3MHz 3.0A Step-Down DC-DC Switching Regulator, 10-pin LLP, Pb-Free; PartNumber: LM2833XSD/NOPB; Manufacturer: National Semiconductor; PackageTopMarking: ZXYTT*2833X; PowerWise: N; CompType: Switcher; High-Reliability: Y; DatasheetVersion: Jan-2009; PackageVersion: revA, Oct-2003; PackageReference: SDA10A; PackageDescription: LLP, Plastic, Dual, 3 x 3 x 0.8mm Body, 10 Lead, 0.5mm Pitch, No Pullback; RoHS: Y; PinCount: 10; ComponentLink1Description: Manufacturer URL; ComponentLink1URL: http://www.national.com/; ComponentLink2Description: LM2833 Datasheet; ComponentLink2URL: http://www.national.com/ds/LM/LM2833.pdf; ComponentLink3Description: LM2833 Web Page; ComponentLink3URL: http://www.national.com/pf/LM/LM2833.html; ComponentLink4Description: SDA10A Package Page; ComponentLink4URL: http://www.national.com/packaging/folders/sda10a.html
footprint SDA10A (SON, 10-Leads, Body 3x3 mm, Pitch 0.5mm, NSC Recommended)
pins: 1 VINC (power), 2 EN (in), 3 SGND (power), 4 NC, 5 FB (in), 6 PGND (power), 7 SW (power), 8 SW (power), 9 VIND (power), 10 VIND (power), 11 DAP (power)

## LM2833XSDX
designator U?
1.5MHz/3MHz 3.0A Step-Down DC-DC Switching Regulator, 10-pin LLP; PartNumber: LM2833XSDX; Manufacturer: National Semiconductor; PackageTopMarking: ZXYTT*2833X; PowerWise: N; CompType: Switcher; High-Reliability: Y; DatasheetVersion: Jan-2009; PackageVersion: revA, Oct-2003; PackageReference: SDA10A; PackageDescription: LLP, Plastic, Dual, 3 x 3 x 0.8mm Body, 10 Lead, 0.5mm Pitch, No Pullback; RoHS: Y; PinCount: 10; ComponentLink1Description: Manufacturer URL; ComponentLink1URL: http://www.national.com/; ComponentLink2Description: LM2833 Datasheet; ComponentLink2URL: http://www.national.com/ds/LM/LM2833.pdf; ComponentLink3Description: LM2833 Web Page; ComponentLink3URL: http://www.national.com/pf/LM/LM2833.html; ComponentLink4Description: SDA10A Package Page; ComponentLink4URL: http://www.national.com/packaging/folders/sda10a.html
footprint SDA10A (SON, 10-Leads, Body 3x3 mm, Pitch 0.5mm, NSC Recommended)
pins: 1 VINC (power), 2 EN (in), 3 SGND (power), 4 NC, 5 FB (in), 6 PGND (power), 7 SW (power), 8 SW (power), 9 VIND (power), 10 VIND (power), 11 DAP (power)

## LM2833XSDX/NOPB
designator U?
1.5MHz/3MHz 3.0A Step-Down DC-DC Switching Regulator, 10-pin LLP, Pb-Free; PartNumber: LM2833XSDX/NOPB; Manufacturer: National Semiconductor; PackageTopMarking: ZXYTT*2833X; PowerWise: N; CompType: Switcher; High-Reliability: Y; DatasheetVersion: Jan-2009; PackageVersion: revA, Oct-2003; PackageReference: SDA10A; PackageDescription: LLP, Plastic, Dual, 3 x 3 x 0.8mm Body, 10 Lead, 0.5mm Pitch, No Pullback; RoHS: Y; PinCount: 10; ComponentLink1Description: Manufacturer URL; ComponentLink1URL: http://www.national.com/; ComponentLink2Description: LM2833 Datasheet; ComponentLink2URL: http://www.national.com/ds/LM/LM2833.pdf; ComponentLink3Description: LM2833 Web Page; ComponentLink3URL: http://www.national.com/pf/LM/LM2833.html; ComponentLink4Description: SDA10A Package Page; ComponentLink4URL: http://www.national.com/packaging/folders/sda10a.html
footprint SDA10A (SON, 10-Leads, Body 3x3 mm, Pitch 0.5mm, NSC Recommended)
pins: 1 VINC (power), 2 EN (in), 3 SGND (power), 4 NC, 5 FB (in), 6 PGND (power), 7 SW (power), 8 SW (power), 9 VIND (power), 10 VIND (power), 11 DAP (power)

## LM2833ZMY
designator U?
1.5MHz/3MHz 3.0A Step-Down DC-DC Switching Regulator, 10-pin eMSOP; PartNumber: LM2833ZMY; Manufacturer: National Semiconductor; PackageTopMarking: ZXTT*SPZB; PowerWise: N; CompType: Switcher; High-Reliability: Y; DatasheetVersion: Jan-2009; PackageVersion: revA, May-2006; PackageReference: MUC10A; PackageDescription: Molded Mini-SO, Exposed Pad .118 x .118 x .034in Body, 10 Lead, .0197in Pitch; RoHS: Y; PinCount: 10; Code_JEDEC: MO-187-BAT; ComponentLink1Description: Manufacturer URL; ComponentLink1URL: http://www.national.com/; ComponentLink2Description: LM2833 Datasheet; ComponentLink2URL: http://www.national.com/ds/LM/LM2833.pdf; ComponentLink3Description: LM2833 Web Page; ComponentLink3URL: http://www.national.com/pf/LM/LM2833.html; ComponentLink4Description: MUC10A Package Page; ComponentLink4URL: http://www.national.com/packaging/folders/muc10a.html
footprint MUC10A_N (TSSOP, 10-Leads, Body 3x3mm, Pitch 0.5mm, Exposed Pad, IPC Medium Density)
footprint MUC10A_L (TSSOP, 10-Leads, Body 3x3mm, Pitch 0.5mm, Exposed Pad, IPC High Density)
footprint MUC10A_M (TSSOP, 10-Leads, Body 3x3mm, Pitch 0.5mm, Exposed Pad, IPC Low Density)
pins: 1 VINC (power), 2 EN (in), 3 SGND (power), 4 NC, 5 FB (in), 6 PGND (power), 7 SW (power), 8 SW (power), 9 VIND (power), 10 VIND (power), 11 DAP (power)

## LM2833ZMY/NOPB
designator U?
1.5MHz/3MHz 3.0A Step-Down DC-DC Switching Regulator, 10-pin eMSOP, Pb-Free; PartNumber: LM2833ZMY/NOPB; Manufacturer: National Semiconductor; PackageTopMarking: ZXTT*SPZB; PowerWise: N; CompType: Switcher; High-Reliability: Y; DatasheetVersion: Jan-2009; PackageVersion: revA, May-2006; PackageReference: MUC10A; PackageDescription: Molded Mini-SO, Exposed Pad .118 x .118 x .034in Body, 10 Lead, .0197in Pitch; RoHS: Y; PinCount: 10; Code_JEDEC: MO-187-BAT; ComponentLink1Description: Manufacturer URL; ComponentLink1URL: http://www.national.com/; ComponentLink2Description: LM2833 Datasheet; ComponentLink2URL: http://www.national.com/ds/LM/LM2833.pdf; ComponentLink3Description: LM2833 Web Page; ComponentLink3URL: http://www.national.com/pf/LM/LM2833.html; ComponentLink4Description: MUC10A Package Page; ComponentLink4URL: http://www.national.com/packaging/folders/muc10a.html
footprint MUC10A_N (TSSOP, 10-Leads, Body 3x3mm, Pitch 0.5mm, Exposed Pad, IPC Medium Density)
footprint MUC10A_L (TSSOP, 10-Leads, Body 3x3mm, Pitch 0.5mm, Exposed Pad, IPC High Density)
footprint MUC10A_M (TSSOP, 10-Leads, Body 3x3mm, Pitch 0.5mm, Exposed Pad, IPC Low Density)
pins: 1 VINC (power), 2 EN (in), 3 SGND (power), 4 NC, 5 FB (in), 6 PGND (power), 7 SW (power), 8 SW (power), 9 VIND (power), 10 VIND (power), 11 DAP (power)

## LM2833ZMYX/NOPB
designator U?
1.5MHz/3MHz 3.0A Step-Down DC-DC Switching Regulator, 10-pin eMSOP, Pb-Free; PartNumber: LM2833ZMYX/NOPB; Manufacturer: National Semiconductor; PackageTopMarking: ZXTT*SPZB; PowerWise: N; CompType: Switcher; High-Reliability: Y; DatasheetVersion: Jan-2009; PackageVersion: revA, May-2006; PackageReference: MUC10A; PackageDescription: Molded Mini-SO, Exposed Pad .118 x .118 x .034in Body, 10 Lead, .0197in Pitch; RoHS: Y; PinCount: 10; Code_JEDEC: MO-187-BAT; ComponentLink1Description: Manufacturer URL; ComponentLink1URL: http://www.national.com/; ComponentLink2Description: LM2833 Datasheet; ComponentLink2URL: http://www.national.com/ds/LM/LM2833.pdf; ComponentLink3Description: LM2833 Web Page; ComponentLink3URL: http://www.national.com/pf/LM/LM2833.html; ComponentLink4Description: MUC10A Package Page; ComponentLink4URL: http://www.national.com/packaging/folders/muc10a.html
footprint MUC10A_N (TSSOP, 10-Leads, Body 3x3mm, Pitch 0.5mm, Exposed Pad, IPC Medium Density)
footprint MUC10A_L (TSSOP, 10-Leads, Body 3x3mm, Pitch 0.5mm, Exposed Pad, IPC High Density)
footprint MUC10A_M (TSSOP, 10-Leads, Body 3x3mm, Pitch 0.5mm, Exposed Pad, IPC Low Density)
pins: 1 VINC (power), 2 EN (in), 3 SGND (power), 4 NC, 5 FB (in), 6 PGND (power), 7 SW (power), 8 SW (power), 9 VIND (power), 10 VIND (power), 11 DAP (power)

## LM2833ZSD
designator U?
1.5MHz/3MHz 3.0A Step-Down DC-DC Switching Regulator, 10-pin LLP; PartNumber: LM2833ZSD; Manufacturer: National Semiconductor; PackageTopMarking: ZXYTT*2833Z; PowerWise: N; CompType: Switcher; High-Reliability: Y; DatasheetVersion: Jan-2009; PackageVersion: revA, Oct-2003; PackageReference: SDA10A; PackageDescription: LLP, Plastic, Dual, 3 x 3 x 0.8mm Body, 10 Lead, 0.5mm Pitch, No Pullback; RoHS: Y; PinCount: 10; ComponentLink1Description: Manufacturer URL; ComponentLink1URL: http://www.national.com/; ComponentLink2Description: LM2833 Datasheet; ComponentLink2URL: http://www.national.com/ds/LM/LM2833.pdf; ComponentLink3Description: LM2833 Web Page; ComponentLink3URL: http://www.national.com/pf/LM/LM2833.html; ComponentLink4Description: SDA10A Package Page; ComponentLink4URL: http://www.national.com/packaging/folders/sda10a.html
footprint SDA10A (SON, 10-Leads, Body 3x3 mm, Pitch 0.5mm, NSC Recommended)
pins: 1 VINC (power), 2 EN (in), 3 SGND (power), 4 NC, 5 FB (in), 6 PGND (power), 7 SW (power), 8 SW (power), 9 VIND (power), 10 VIND (power), 11 DAP (power)

## LM2833ZSD/NOPB
designator U?
1.5MHz/3MHz 3.0A Step-Down DC-DC Switching Regulator, 10-pin LLP, Pb-Free; PartNumber: LM2833ZSD/NOPB; Manufacturer: National Semiconductor; PackageTopMarking: ZXYTT*2833Z; PowerWise: N; CompType: Switcher; High-Reliability: Y; DatasheetVersion: Jan-2009; PackageVersion: revA, Oct-2003; PackageReference: SDA10A; PackageDescription: LLP, Plastic, Dual, 3 x 3 x 0.8mm Body, 10 Lead, 0.5mm Pitch, No Pullback; RoHS: Y; PinCount: 10; ComponentLink1Description: Manufacturer URL; ComponentLink1URL: http://www.national.com/; ComponentLink2Description: LM2833 Datasheet; ComponentLink2URL: http://www.national.com/ds/LM/LM2833.pdf; ComponentLink3Description: LM2833 Web Page; ComponentLink3URL: http://www.national.com/pf/LM/LM2833.html; ComponentLink4Description: SDA10A Package Page; ComponentLink4URL: http://www.national.com/packaging/folders/sda10a.html
footprint SDA10A (SON, 10-Leads, Body 3x3 mm, Pitch 0.5mm, NSC Recommended)
pins: 1 VINC (power), 2 EN (in), 3 SGND (power), 4 NC, 5 FB (in), 6 PGND (power), 7 SW (power), 8 SW (power), 9 VIND (power), 10 VIND (power), 11 DAP (power)

## LM2833ZSDX/NOPB
designator U?
1.5MHz/3MHz 3.0A Step-Down DC-DC Switching Regulator, 10-pin LLP, Pb-Free; PartNumber: LM2833ZSDX/NOPB; Manufacturer: National Semiconductor; PackageTopMarking: ZXYTT*2833Z; PowerWise: N; CompType: Switcher; High-Reliability: Y; DatasheetVersion: Jan-2009; PackageVersion: revA, Oct-2003; PackageReference: SDA10A; PackageDescription: LLP, Plastic, Dual, 3 x 3 x 0.8mm Body, 10 Lead, 0.5mm Pitch, No Pullback; RoHS: Y; PinCount: 10; ComponentLink1Description: Manufacturer URL; ComponentLink1URL: http://www.national.com/; ComponentLink2Description: LM2833 Datasheet; ComponentLink2URL: http://www.national.com/ds/LM/LM2833.pdf; ComponentLink3Description: LM2833 Web Page; ComponentLink3URL: http://www.national.com/pf/LM/LM2833.html; ComponentLink4Description: SDA10A Package Page; ComponentLink4URL: http://www.national.com/packaging/folders/sda10a.html
footprint SDA10A (SON, 10-Leads, Body 3x3 mm, Pitch 0.5mm, NSC Recommended)
pins: 1 VINC (power), 2 EN (in), 3 SGND (power), 4 NC, 5 FB (in), 6 PGND (power), 7 SW (power), 8 SW (power), 9 VIND (power), 10 VIND (power), 11 DAP (power)

## LM2852XMXA-0.8
designator U?
2A 500/1500kHz Synchronous SIMPLE SWITCHER® Buck Regulator, 14-pin TSSOP-EP; PartNumber: LM2852XMXA-0.8; Manufacturer: National Semiconductor; PackageTopMarking: NSUZXYTT*2852X*0.8; PowerWise: Y; DatasheetVersion: Oct-2006; PackageVersion: revA, Feb-2003; PackageReference: MXA14A; PackageDescription: Molded TSSOP, JEDEC, Exposed Pad, 5.0 x 4.4 x 0.9mm Body, 14 Lead, 0.65mm Pitch; RoHS: N; PinCount: 14; CompType: Switcher; High-Reliability: Y; Code_JEDEC: MO-153-ABT-1; ComponentLink1Description: Manufacturer URL; ComponentLink1URL: http://www.national.com/; ComponentLink2Description: LM2852 Datasheet; ComponentLink2URL: http://www.national.com/ds/LM/LM2852.pdf; ComponentLink3Description: LM2852 Web Page; ComponentLink3URL: http://www.national.com/pf/LM/LM2852.html; ComponentLink4Description: MXA14A Package Page; ComponentLink4URL: http://www.national.com/packaging/folders/mxa14a.html
footprint MXA14A_N (TSOP, 14-Leads, Body 5x4.4mm, Pitch 0.65mm, Thermal Pad, IPC Medium Density)
footprint MXA14A_L (TSOP, 14-Leads, Body 5x4.4mm, Pitch 0.65mm, Thermal Pad, IPC High Density)
footprint MXA14A_M (TSOP, 14-Leads, Body 5x4.4mm, Pitch 0.65mm, Thermal Pad, IPC Low Density)
pins: 1 AVIN (power), 2 EN, 3 SGND (power), 4 SS (in), 5 NC, 6 PVIN (power), 7 PVIN (power), 8 SW (power), 9 SW (power), 10 PGND (power), 11 PGND (power), 12 NC, 13 NC, 14 SNS (in), 15 Thermal Pad (power)